# Altium schematic symbol library ESP32.SchLib: 2 symbols
Pins are listed as number, name and electrical type; pins without a type are passive.

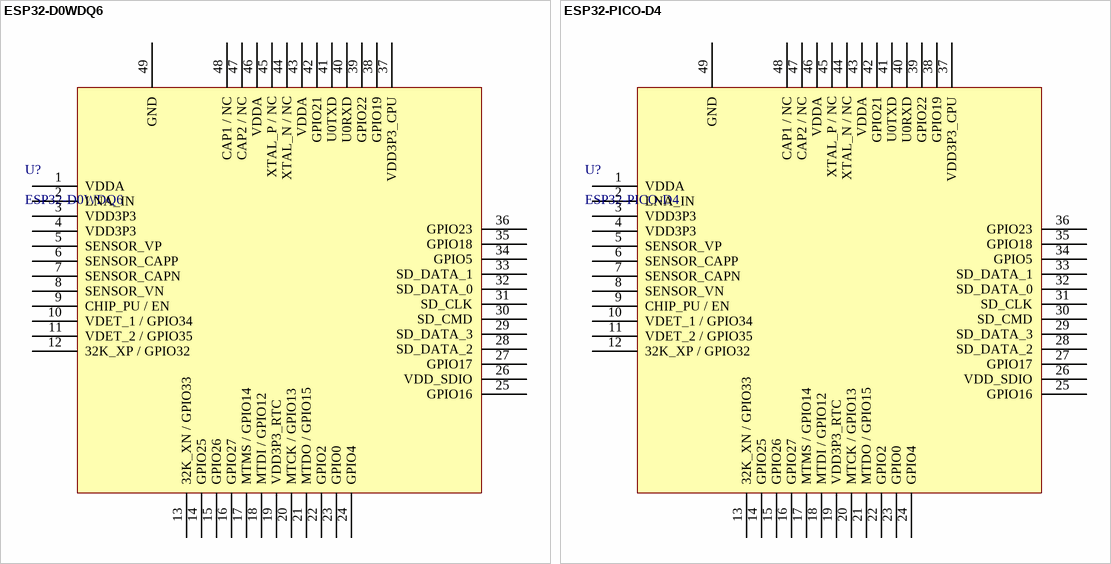
[diagram p0: symbols ESP32-D0WDQ6 to ESP32-PICO-D4]

## ESP32-D0WDQ6
designator U?
RF TRANSCEIVER ICS QFN-48_6X6X04P ROHS; Manufacturer: Espressif Systems; MFR.Part #: ESP32; ComponentLink1Description: Datasheet; ComponentLink1URL: https://datasheet.lcsc.com/szlcsc/Espressif-Systems-ESP32_C80134.pdf; ComponentLink2Description: Datasheet_EN; ComponentLink2URL: https://www.espressif.com/sites/default/files/documentation/esp32_datasheet_en.pdf; LCSC Part #: C80134; Package: QFN-48_EP_6.0x6.0x0.4P
footprint ESP32-D0WDQ6
pins: 1 VDDA, 2 LNA_IN, 3 VDD3P3, 4 VDD3P3, 5 SENSOR_VP, 6 SENSOR_CAPP, 7 SENSOR_CAPN, 8 SENSOR_VN, 9 CHIP_PU / EN, 10 VDET_1 / GPIO34, 11 VDET_2 / GPIO35, 12 32K_XP / GPIO32, 13 32K_XN / GPIO33, 14 GPIO25, 15 GPIO26, 16 GPIO27, 17 MTMS / GPIO14, 18 MTDI / GPIO12, 19 VDD3P3_RTC, 20 MTCK / GPIO13, 21 MTDO / GPIO15, 22 GPIO2, 23 GPIO0, 24 GPIO4, 25 GPIO16, 26 VDD_SDIO, 27 GPIO17, 28 SD_DATA_2, 29 SD_DATA_3, 30 SD_CMD, 31 SD_CLK, 32 SD_DATA_0, 33 SD_DATA_1, 34 GPIO5, 35 GPIO18, 36 GPIO23, 37 VDD3P3_CPU, 38 GPIO19, 39 GPIO22, 40 U0RXD, 41 U0TXD, 42 GPIO21, 43 VDDA, 44 XTAL_N / NC, 45 XTAL_P / NC, 46 VDDA, 47 CAP2 / NC, 48 CAP1 / NC, 49 GND

## ESP32-PICO-D4
designator U?
RF TRANSCEIVER ICS QFN-48_7X7X05P ROHS; Manufacturer: Espressif Systems; ComponentLink1Description: Datasheet; ComponentLink1URL: https://datasheet.lcsc.com/szlcsc/Espressif-Systems-ESP32-PICO-D4_C193707.pdf; ComponentLink2Description: Datasheet_EN; ComponentLink2URL: https://www.espressif.com/sites/default/files/documentation/esp32-pico-d4_datasheet_en.pdf; MFR.Part #: ESP32-PICO-D4; LCSC Part #: C193707; Package: QFN-48_EP_7.0x7.0x0.5P
footprint ESP32-PICO-D4
pins: 1 VDDA, 2 LNA_IN, 3 VDD3P3, 4 VDD3P3, 5 SENSOR_VP, 6 SENSOR_CAPP, 7 SENSOR_CAPN, 8 SENSOR_VN, 9 CHIP_PU / EN, 10 VDET_1 / GPIO34, 11 VDET_2 / GPIO35, 12 32K_XP / GPIO32, 13 32K_XN / GPIO33, 14 GPIO25, 15 GPIO26, 16 GPIO27, 17 MTMS / GPIO14, 18 MTDI / GPIO12, 19 VDD3P3_RTC, 20 MTCK / GPIO13, 21 MTDO / GPIO15, 22 GPIO2, 23 GPIO0, 24 GPIO4, 25 GPIO16, 26 VDD_SDIO, 27 GPIO17, 28 SD_DATA_2, 29 SD_DATA_3, 30 SD_CMD, 31 SD_CLK, 32 SD_DATA_0, 33 SD_DATA_1, 34 GPIO5, 35 GPIO18, 36 GPIO23, 37 VDD3P3_CPU, 38 GPIO19, 39 GPIO22, 40 U0RXD, 41 U0TXD, 42 GPIO21, 43 VDDA, 44 XTAL_N / NC, 45 XTAL_P / NC, 46 VDDA, 47 CAP2 / NC, 48 CAP1 / NC, 49 GND